# Altium footprint library stm32f373-relay-control.PcbLib: 31 footprints (part 1 of 2)
Each footprint in its own frame and in the unit in brackets; x right, y up, seen from the top. Pads: shape width x height; smd on the part's side, far side on the other; paste and mask are expansions set on the pad; w line width, h text height; cw(c..) or ccw(c..) is an arc to the next point about the centre after c.
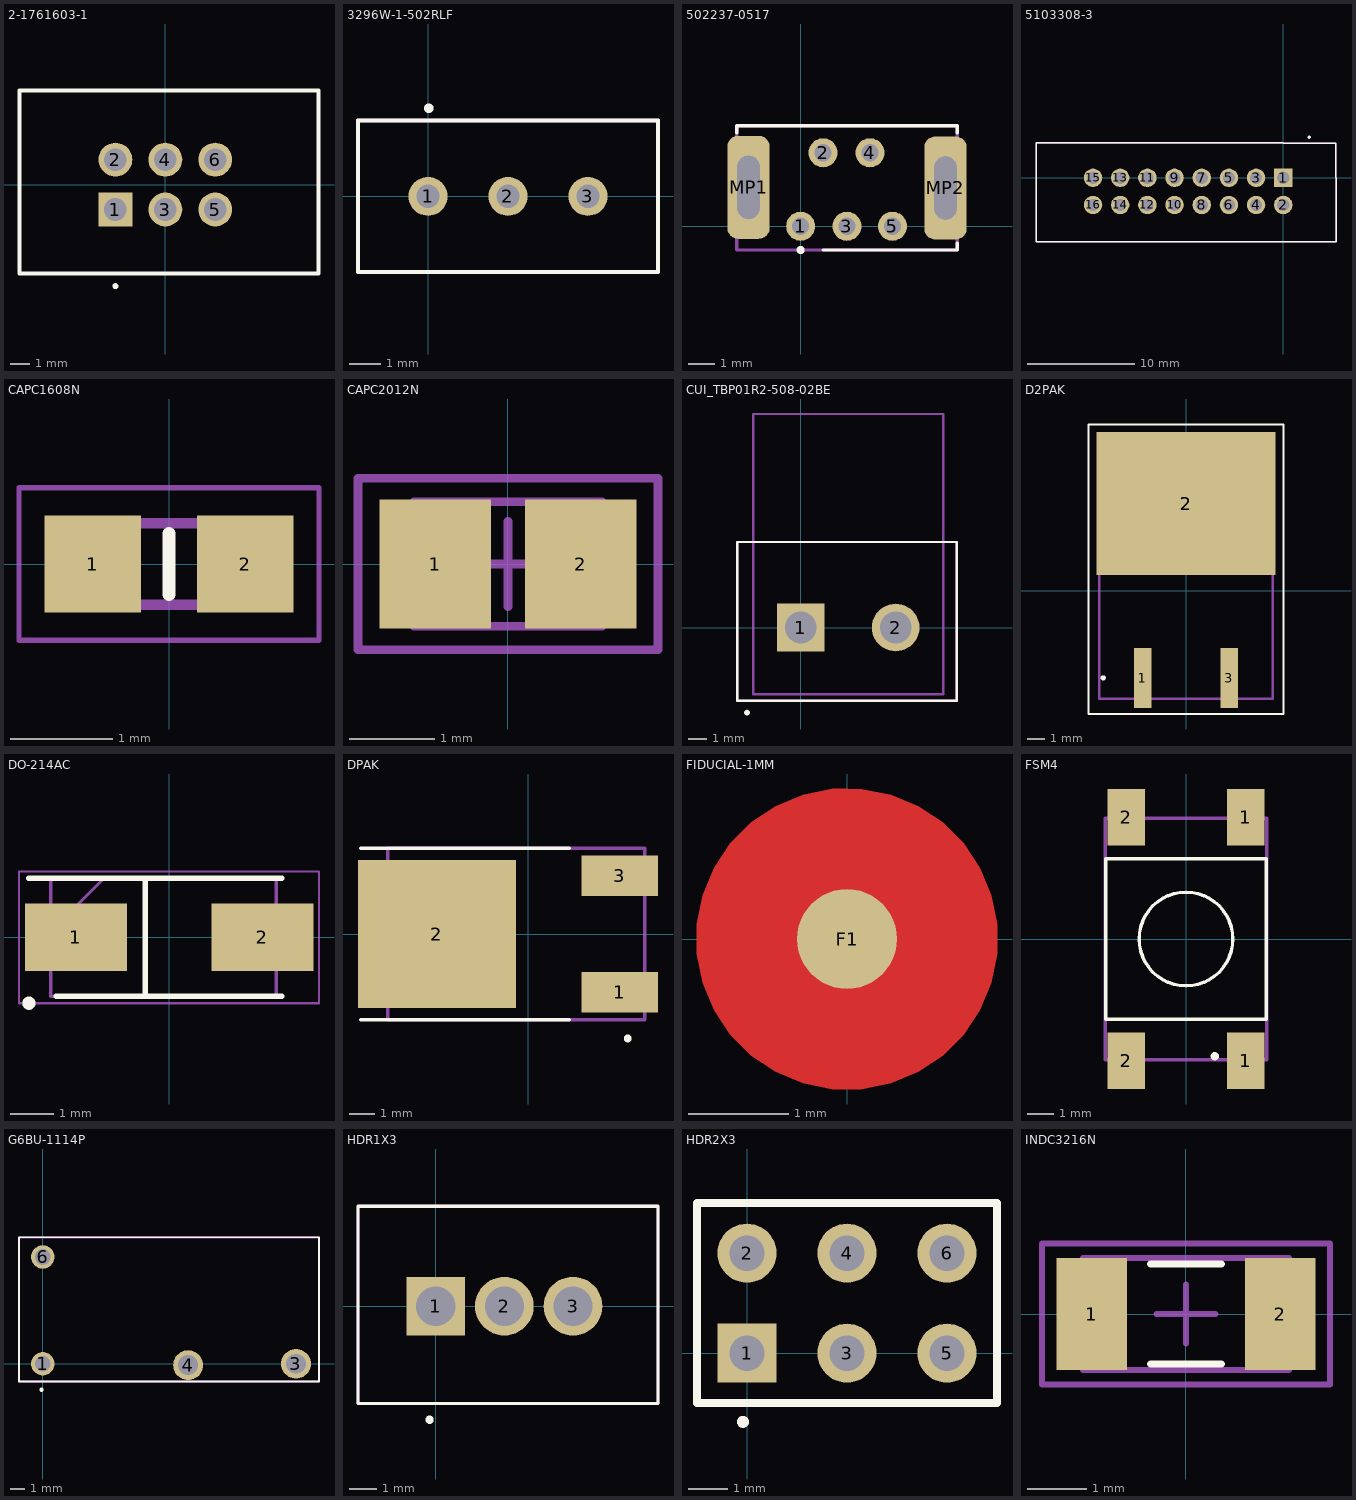
[diagram p0: the footprints below, top view; thin cyan lines are the x and y axes]

## 2-1761603-1 [mm]
pads (6):
  rect 1.725x1.725 hole 1.15: 1(-2.54,-1.27)
  round 1.725 hole 1.15: 2(-2.54,1.27) 3(0,-1.27) 4(0,1.27) 5(2.54,-1.27) 6(2.54,1.27)
Top Overlay:
  circle w0.152: c-2.54,-5.175 r0.076
  lines w0.2: -7.425,-4.525 7.8,-4.525 7.8,4.8 -7.425,4.8 -7.425,-4.525
Mechanical 13:
  lines w0.1: -7.44,-4.51 7.8,-4.51 7.8,4.8 -7.44,4.8 -7.44,-4.51
Mechanical 15:
  lines w0.05: -7.45,3.255 -7.45,-4.525 7.825,-4.525 7.825,4.8 -5.01,4.8
3D body "c-2-1761603-1-a-3d.stp": height 9, standoff -2.81, extent -7.44,-4.51 7.8,4.71

## 3296W-1-502RLF [mm]
pads (3):
  round 1.24 hole 0.74: 1(0,0) 2(2.54,0) 3(5.08,0)
Top Overlay:
  circle w0.152: c0.025,2.8 r0.076
  lines w0.127: -2.225,-2.41 7.305,-2.41 7.305,2.41 -2.225,2.41 -2.225,-2.41
Mechanical 15:
  lines w0.127: -2.225,-2.41 7.305,-2.41 7.305,2.41 -2.225,2.41 -2.225,-2.41
3D body "User Library-bourns 3296 pot.STEP": height 11.8, standoff -6.15, extent -2.225,-2.369 7.305,2.462

## 502237-0517 [mm]
pads (7):
  round 1.1 hole 0.65: 1(0,0) 2(0.85,2.783) 3(1.75,0) 4(2.625,2.783) 5(3.475,0)
  rrect50% 1.6x3.9 hole 2.4 slot 0.85 at 0 deg: MP1(-1.975,1.475) MP2(5.484,1.45)
Top Overlay:
  circle w0.152: c0,-0.9 r0.076
  lines w0.127: -2.425,3.545 -2.425,3.8 5.925,3.8 5.925,3.545 ; 0.85,-0.9 5.925,-0.9 5.925,-0.646
Mechanical 15:
  lines w0.127: -2.425,-0.9 5.925,-0.9 5.925,3.8 -2.425,3.8 -2.425,-0.9
3D body "5022370517.stp": height 7.9, standoff -2.7, extent -2.425,-0.9 5.925,3.8

## 5103308-3 [mm]
pads (16):
  rect 1.725x1.725 hole 1.15: 1(0,0)
  round 1.725 hole 1.15: 2(0,-2.54) 3(-2.54,0) 4(-2.54,-2.54) 5(-5.08,0) 6(-5.08,-2.54) 7(-7.62,0) 8(-7.62,-2.54) 9(-10.16,0) 10(-10.16,-2.54) 11(-12.7,0) 12(-12.7,-2.54) 13(-15.24,0) 14(-15.24,-2.54) 15(-17.78,0) 16(-17.78,-2.54)
Top Overlay:
  circle w0.152: c2.425,3.8 r0.076
  lines w0.127: 0,3.25 4.925,3.25 4.925,0.004 ; 0,3.255 -23.11,3.255 -23.11,-5.969 4.929,-5.969 4.929,0
Mechanical 13:
  lines w0.1: -23.11,-5.969 4.925,-5.969 4.925,3.25 -23.11,3.25 -23.11,-5.969
Mechanical 15:
  lines w0.05: -23.11,-5.969 4.929,-5.969 4.929,3.255 -23.11,3.255 -23.11,-5.969
3D body "5103308-3.stp": height 10, standoff -2.9, extent -23.07,-5.944 4.87,3.2

## CAPC1608N [mm]
pads (2):
  rrect0% 0.95x0.95 smd: 1(-0.75,0) 2(0.75,0)
Top Overlay:
  lines w0.127: 0,-0.3 0,0.3
Mechanical 15:
  lines w0.05: -1.475,-0.75 -1.475,0.75 1.475,0.75 1.475,-0.75 -1.475,-0.75
  lines w0.1: -0.8,-0.4 0.8,-0.4 0.8,0.4 -0.8,0.4 -0.8,-0.4
3D body "CAPC0603.STEP": height 0.81, standoff 0.01, extent -1.05,-0.525 1.05,0.504

## CAPC2012N [mm] "Chip Capacitor, Body 2.0x1.3mm, IPC Medium Density"
height 1.1
pads (2):
  rect 1.3x1.5 smd: 1(-0.85,0) 2(0.85,0)
Mechanical 13:
  lines w0.1: -1.1,-0.725 1.1,-0.725 1.1,0.725 -1.1,0.725 -1.1,-0.725
Mechanical 15:
  lines w0.1: -0.5,0 0.5,0 ; 0,-0.5 0,0.5 ; -1.75,-1 1.75,-1 1.75,1 -1.75,1 -1.75,-1
3D body "CAPC0805.STEP": height 0.9, standoff 0, extent -1.301,-0.678 1.301,0.678

## CUI_TBP01R2-508-02BE [mm]
pads (2):
  rect 2.55x2.55 hole 1.7: 1(0,0)
  round 2.55 hole 1.7: 2(5.08,0)
Top Overlay:
  circle w0.152: c-2.875,-4.55 r0.076
  lines w0.127: -3.405,-3.925 8.355,-3.925 8.355,4.575 -3.405,4.575 -3.405,-3.925
Mechanical 13:
  lines w0.127: -2.535,-3.575 7.625,-3.575 7.625,11.425 -2.535,11.425 -2.535,-3.575
Mechanical 15:
  lines w0.127: -3.405,-3.925 8.355,-3.925 8.355,4.575 -3.405,4.575 -3.405,-3.925
3D body "CUI_DEVICES_TBP01P1-508-02BE.step": height 20.5, standoff 2.5, extent -2.535,-3.575 7.625,11.425
3D body "CUI_DEVICES_TBP01R2-508-02BE.step": height 12.1, standoff -3.9, extent -3.405,-3.925 8.355,4.575

## D2PAK [mm]
pads (3):
  rect 1.016x3.504 smd mask+0.07: 1(-2.54,-5.106) 3(2.54,-5.106)
  rect 10.49x8.38 smd mask+0.07: 2(0,5.106)
Top Overlay:
  circle w0.152: c-4.85,-5.1 r0.076
  lines w0.127: -5.7,-7.214 -5.7,9.728 5.7,9.728 5.7,-7.214 -5.7,-7.214
Mechanical 15:
  lines w0.127: -5.08,0.9 -5.08,-6.316 5.08,-6.316 5.08,0.9
3D body "User Library-DPAK.step": height 4.98, standoff -0.03, extent -5.08,-6.316 5.08,8.948

## DO-214AC [mm]
pads (2):
  rect 2.35x1.55 smd: 1(-2.15,0) 2(2.15,0)
Top Overlay:
  circle w0.152: c-3.231,-1.521 r0.076
  lines w0.127: -3.231,1.362 2.6,1.362 ; -2.6,-1.362 2.6,-1.362 ; -0.553,-1.357 -0.553,1.325
Mechanical 15:
  lines w0.05: -3.46,-1.521 3.457,-1.521 3.457,1.516 -3.46,1.516 -3.46,-1.521
  lines w0.076: -2.727,0 -2.727,0.061 -2.727,0.136 -1.5,1.363 ; -2.727,-1.362 2.473,-1.362 2.473,1.363 -2.727,1.363 -2.727,-1.362
3D body "S1M.stp": height 2.7, standoff 0, extent -2.727,-1.362 2.473,1.363

## DPAK [mm]
pads (3):
  rect 3x1.6 smd: 1(3.59,-2.286) 3(3.59,2.286)
  rect 6.2x5.8 smd: 2(-3.59,0)
Top Overlay:
  circle w0.152: c3.9,-4.1 r0.076
  lines w0.127: -6.59,-3.365 1.615,-3.365 ; -6.59,3.365 1.615,3.365
Mechanical 15:
  lines w0.127: -5.526,-3.367 -5.526,3.367 4.574,3.367 4.574,-3.367 -5.526,-3.367
3D body "DPAK_TO-252AA.STEP": height 2.37, standoff -0.03, extent -5.526,-3.367 4.574,3.367

## FIDUCIAL-1MM [mm] "1MM FIDUCAL MARKER"
pads (1):
  round 1 smd paste-1 mask+0.5: F1(0,0)
Top Layer:
  pour cut-out: -1.5,0 -1.5,-0.148 -1.442,-0.438 -1.329,-0.711 -1.165,-0.956 -0.956,-1.165 -0.711,-1.329 -0.438,-1.442 -0.148,-1.5 0,-1.5 0.148,-1.5 0.438,-1.442 0.711,-1.329 0.956,-1.165 1.165,-0.956 1.329,-0.711 1.442,-0.438 1.5,-0.148 1.5,0 1.5,0.148 1.442,0.438 1.329,0.711 1.165,0.956 0.956,1.165 0.711,1.329 0.438,1.442 0.148,1.5 0,1.5 -0.148,1.5 -0.438,1.442 -0.711,1.329 -0.956,1.165 -1.165,0.956 -1.329,0.711 -1.442,0.438 -1.5,0.148

## FSM4 [mm]
pads (4):
  rect 1.4x2.1 smd mask+0.07: 1(2.23,-4.55) 1(2.23,4.55) 2(-2.23,-4.55) 2(-2.23,4.55)
Top Overlay:
  circle w0.127: c0,0 r1.75
  circle w0.152: c1.075,-4.375 r0.076
  lines w0.127: -3,-3 3,-3 3,3 -3,3 -3,-3
Mechanical 15:
  lines w0.127: -3.016,-4.508 3.016,-4.508 3.016,4.509 -3.016,4.509 -3.016,-4.508
3D body "Tactal Switch - SMD (6mmx 6mmx 5mm) - Marked.stp": height 5, standoff 0, extent -3.016,-4.508 3.016,4.509

## G6BU-1114P [mm]
height 15.3
pads (4):
  round 1.65 hole 1.1: 1(0,0) 6(0,7.5)
  round 2.1 hole 1.4: 3(17.775,0) 4(10.2,-0.1)
Top Overlay:
  circle w0.152: c-0.095,-1.82 r0.076
  lines w0.127: -1.675,-1.25 -1.675,8.883 19.387,8.883 19.39,8.886 19.39,-1.25 -1.675,-1.25
Mechanical 13:
  lines w0.127: -1.675,-1.25 -1.675,8.875 19.39,8.875 19.39,-1.25 -1.675,-1.25
Mechanical 15:
  lines w0.127: -1.675,-1.25 19.39,-1.25 19.39,8.875 19.382,8.883 -1.675,8.883 -1.675,-1.25
3D body "G6BU_1114P_US.step": height 10, standoff -3.5, extent -1.61,-1.19 19.39,8.81

## HDR1X3 [mm]
pads (3):
  rect 2.175x2.175 / inner round 2.175 / far side rect 2.175x2.175 hole 1.45: 1(0,0)
  round 2.175 hole 1.45: 2(2.54,0) 3(5.08,0)
Top Overlay:
  circle w0.152: c-0.225,-4.2 r0.076
  lines w0.127: -2.875,-3.6 -2.875,3.7 8.225,3.7 8.225,-3.6 -2.875,-3.6
Mechanical 15:
  lines w0.127: -2.875,-3.6 -2.875,3.7 8.225,3.7 8.225,-3.6 -2.875,-3.6
3D body "90136-1103.stp": height 10.85, standoff -2.95, extent -2.818,-3.556 8.152,3.654

## HDR2X3 [mm] "Connector; Header; 3x2 Position"
pads (6):
  rect 1.5x1.5 hole 0.9: 1(0,0)
  round 1.5 hole 0.9: 2(0,2.54) 3(2.54,0) 4(2.54,2.54) 5(5.08,0) 6(5.08,2.54)
Top Overlay:
  circle w0.152: c-0.102,-1.745 r0.076
  lines w0.2: -1.27,-1.27 6.35,-1.27 6.35,3.81 -1.27,3.81 -1.27,-1.27
3D body "Download_STP_61300621121 (rev1).stp": height 8.67, standoff -2.87, extent -1.27,-1.27 6.35,3.81

## INDC3216N [mm] "Chip Inductor, Body 3.2x1.6mm, IPC Medium Density"
height 1.9
pads (2):
  rect 1.2x1.9 smd: 1(-1.6,0) 2(1.6,0)
Top Overlay:
  lines w0.127: -0.6,-0.85 0.6,-0.85 ; -0.6,0.85 0.6,0.85
Mechanical 13:
  lines w0.1: -1.75,-0.95 1.75,-0.95 1.75,0.95 -1.75,0.95 -1.75,-0.95
Mechanical 15:
  lines w0.1: -0.5,0 0.5,0 ; 0,-0.5 0,0.5 ; -2.45,-1.2 2.45,-1.2 2.45,1.2 -2.45,1.2 -2.45,-1.2
3D body "CAPC1206.STEP": height 1.3, standoff -0.01, extent -1.974,-0.976 1.975,0.976